# Altium schematic symbol library Discrete Semiconductors Sym Lib.SchLib: 22 symbols
Pins are listed as number, name and electrical type; pins without a type are passive.

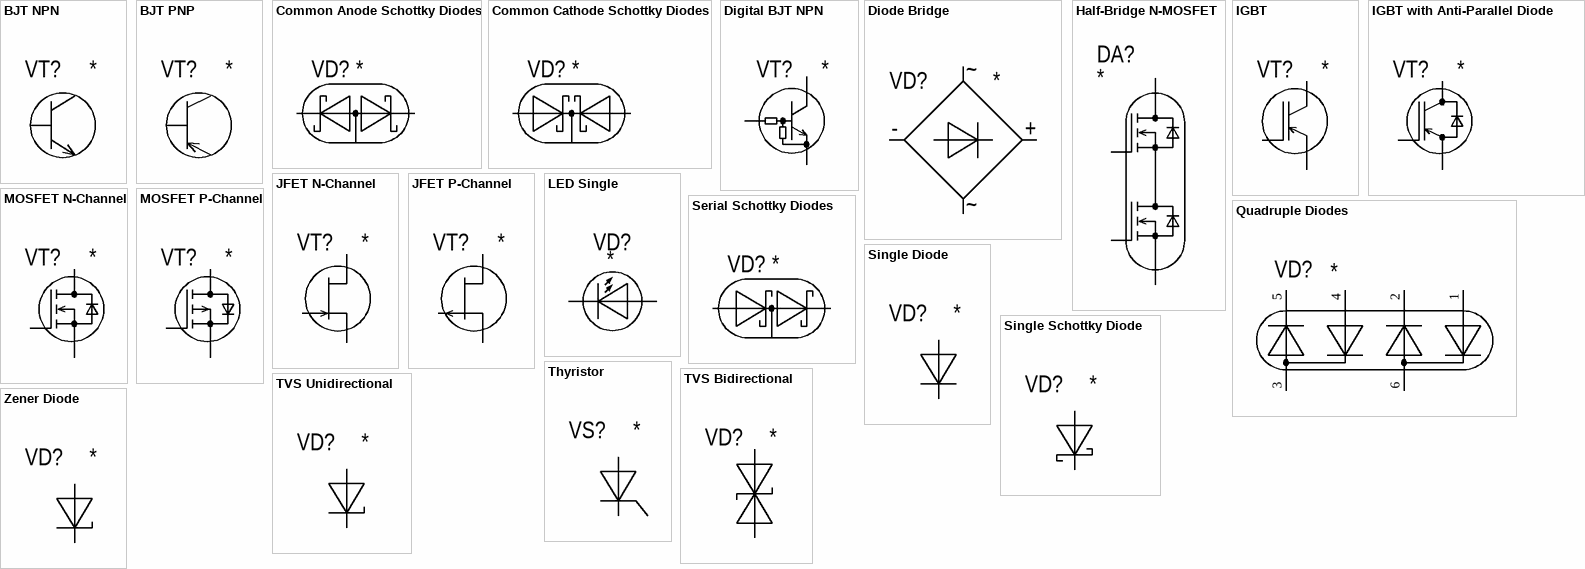
[diagram p0: symbols BJT NPN to Zener Diode]

## BJT NPN
designator VT?
Model: *
pins: Base, Collector, Emitter
1 alternate drawing of the same symbol

## BJT PNP
designator VT?
Model: *
pins: Base, Collector, Emitter
1 alternate drawing of the same symbol

## Common Anode Schottky Diodes
designator VD?
Model: *
pins: Cathode1 First Diod Cathode, Cathode2 Second Diod Cathode, Common Common Anodes "Common Anode"

## Common Cathode Schottky Diodes
designator VD?
Model: *
pins: Anode1 First Diod Anode, Anode2 Second Diod Anode, Common Common Cathodes "Common Cathode"
1 alternate drawing of the same symbol

## Digital BJT NPN
designator VT?
Model: *
pins: 1 Base, 2 Emitter, 3 Collector

## Diode Bridge
designator VD?
Model: *
pins: IN+, IN-, OUT+, OUT-
text: ~; -; +

## Half-Bridge N-MOSFET
designator DA?
Model: *
pins: Drain, Drain, H_gate Gate, L_gate Gate, Phase, Source

## IGBT
designator VT?
Model: *
pins: Collector Drain, Emitter Source, Gate

## IGBT with Anti-Parallel Diode
designator VT?
Model: *
pins: Collector Drain, Emitter Source, Gate

## JFET N-Channel
designator VT?
Model: *
pins: Drain, Gate, Source

## JFET P-Channel
designator VT?
Model: *
pins: Drain, Gate, Source

## LED Single
designator VD?
Model: *
pins: Anode, Cathode

## MOSFET N-Channel
designator VT?
Model: *
pins: Drain, Gate, Source

## MOSFET P-Channel
designator VT?
Model: *
pins: Drain, Gate, Source

## Quadruple Diodes
designator VD?
Model: *
pins: 1, 2, 3, 4, 5, 6

## Serial Schottky Diodes
designator VD?
ComponentLink1Description: BAT54; ComponentLink1URL: http://www.vishay.com/docs/85508/bat54.pdf; Model: *
pins: Anode1 First Diod Anode, Cathode2 Second Diod Cathode, Common First Diode Cathode  and Second Diode Anode Pin "Common Cathode1 and Anode2 Point"

## Single Diode
designator VD?
Model: *
pins: Anode, Cathode

## Single Schottky Diode
designator VD?
Model: *
pins: Anode, Cathode

## Thyristor
designator VS?
Model: *
pins: Anode, Cathode, Gate

## TVS Bidirectional
designator VD?
Model: *
pins: 1, 2

## TVS Unidirectional
designator VD?
Model: *
pins: Anode, Cathode

## Zener Diode
designator VD?
Model: *
pins: Anode, Cathode